# Altium integrated library Zilog Peripheral DMA Controller.IntLib: 15 symbols
Pins are listed as number, name and electrical type; pins without a type are passive.

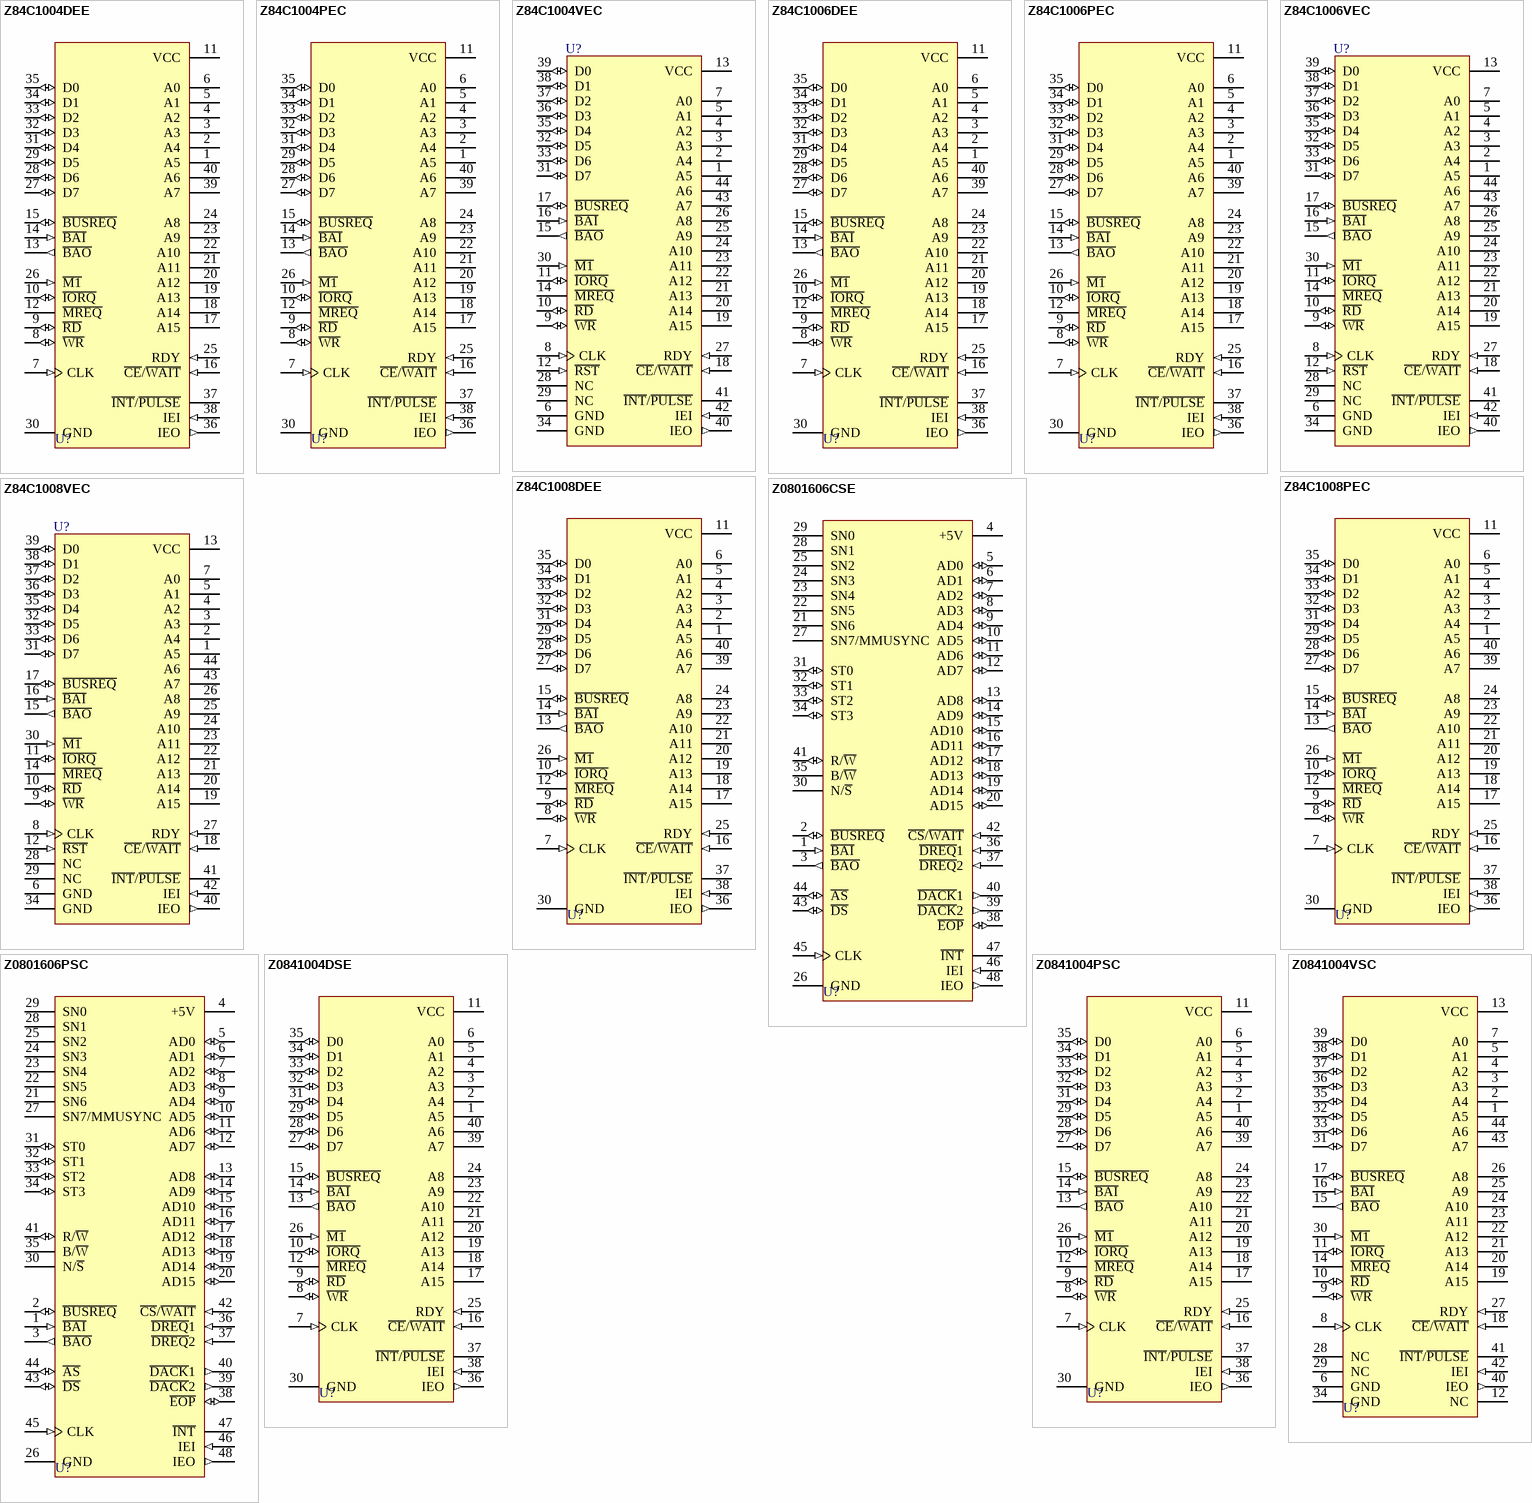
[diagram p0: symbols Z84C1004DEE to Z0841004VSC]

## Z84C1004DEE
designator U?
CMOS Direct Memory Access Controller; Published: 15-Apr-2002; LatestRevisionDate: 04-Mar-2005; LatestRevisionNote: Stylized 3D Model Added.; DatasheetVersion: 2001; PackageVersion: 1999; PackageReference: CerDIP40; Publisher: Altium Limited; PackageDescription: DIP; 40 Leads; Row Spacing 15.24 mm; Pitch 2.54 mm; ComponentLink1Description: Manufacturer Link; ComponentLink1URL: http://www.zilog.com/; ComponentLink2Description: Datasheet; ComponentLink2URL: http://www.zilog.com/docs/z80/um0081.pdf
footprint CerDIP40 (DIP; 40 Leads; Row Spacing 15.24 mm; Pitch 2.54 mm)
3D model PDIP40 (DIP; 40 Leads; Row Spacing 15.24 mm; Pitch 2.54 mm)
pins: 1 A5 (hiz), 2 A4 (hiz), 3 A3 (hiz), 4 A2 (hiz), 5 A1 (hiz), 6 A0 (hiz), 7 CLK (in), 8 ~{WR} (io), 9 ~{RD} (io), 10 ~{IORQ} (io), 11 VCC (power), 12 ~{MREQ} (hiz), 13 ~{BAO} (out), 14 ~{BAI} (in), 15 ~{BUSREQ} (io), 16 ~{CE}/~{WAIT} (in), 17 A15 (hiz), 18 A14 (hiz), 19 A13 (hiz), 20 A12 (hiz), 21 A11 (hiz), 22 A10 (hiz), 23 A9 (hiz), 24 A8 (hiz), 25 RDY (in), 26 ~{M1} (in), 27 D7 (io), 28 D6 (io), 29 D5 (io), 30 GND (power), 31 D4 (io), 32 D3 (io), 33 D2 (io), 34 D1 (io), 35 D0 (io), 36 IEO (out), 37 ~{INT}/~{PULSE} (oc), 38 IEI (in), 39 A7 (hiz), 40 A6 (hiz)

## Z84C1004PEC
designator U?
CMOS Direct Memory Access Controller; Published: 15-Apr-2002; LatestRevisionDate: 04-Mar-2005; LatestRevisionNote: Stylized 3D Model Added.; DatasheetVersion: 2001; PackageVersion: Jun-1999; PackageReference: PDIP40; Publisher: Altium Limited; PackageDescription: DIP; 40 Leads; Row Spacing 15.24 mm; Pitch 2.54 mm; ComponentLink1Description: Manufacturer Link; ComponentLink1URL: http://www.zilog.com/; ComponentLink2Description: Datasheet; ComponentLink2URL: http://www.zilog.com/docs/z80/um0081.pdf
footprint PDIP40 (DIP; 40 Leads; Row Spacing 15.24 mm; Pitch 2.54 mm)
3D model PDIP40 (DIP; 40 Leads; Row Spacing 15.24 mm; Pitch 2.54 mm)
pins: 1 A5 (hiz), 2 A4 (hiz), 3 A3 (hiz), 4 A2 (hiz), 5 A1 (hiz), 6 A0 (hiz), 7 CLK (in), 8 ~{WR} (io), 9 ~{RD} (io), 10 ~{IORQ} (io), 11 VCC (power), 12 ~{MREQ} (hiz), 13 ~{BAO} (out), 14 ~{BAI} (in), 15 ~{BUSREQ} (io), 16 ~{CE}/~{WAIT} (in), 17 A15 (hiz), 18 A14 (hiz), 19 A13 (hiz), 20 A12 (hiz), 21 A11 (hiz), 22 A10 (hiz), 23 A9 (hiz), 24 A8 (hiz), 25 RDY (in), 26 ~{M1} (in), 27 D7 (io), 28 D6 (io), 29 D5 (io), 30 GND (power), 31 D4 (io), 32 D3 (io), 33 D2 (io), 34 D1 (io), 35 D0 (io), 36 IEO (out), 37 ~{INT}/~{PULSE} (oc), 38 IEI (in), 39 A7 (hiz), 40 A6 (hiz)

## Z84C1004VEC
designator U?
CMOS Direct Memory Access Controller; Published: 15-Apr-2002; LatestRevisionDate: 13-Apr-2006; LatestRevisionNote: IPC-7351 Footprint Added.; DatasheetVersion: 2001; PackageReference: PCC44; Publisher: Altium Limited; PackageDescription: 44-Pin Leaded Chip Carrier 1.27 mm Pitch; Code_IPC: PLCC-44; ComponentLink1Description: Manufacturer Link; ComponentLink1URL: http://www.zilog.com/; ComponentLink2Description: Datasheet; ComponentLink2URL: http://www.zilog.com/docs/z80/um0081.pdf
footprint PCC44_N (Leaded Chip Carrier, 44-Leads, Body 16.6x16.6mm, Pitch 1.27mm, IPC Medium Density)
footprint PCC44_L (Leaded Chip Carrier, 44-Leads, Body 16.6x16.6mm, Pitch 1.27mm, IPC High Density)
footprint PCC44_M (Leaded Chip Carrier, 44-Leads, Body 16.6x16.6mm, Pitch 1.27mm, IPC Low Density)
3D model Z84C10-PCC44 (44-Pin Leaded Chip Carrier 1.27 mm Pitch)
pins: 1 A5 (hiz), 2 A4 (hiz), 3 A3 (hiz), 4 A2 (hiz), 5 A1 (hiz), 6 GND (power), 7 A0 (hiz), 8 CLK (in), 9 ~{WR} (io), 10 ~{RD} (io), 11 ~{IORQ} (io), 12 ~{RST} (in), 13 VCC (power), 14 ~{MREQ} (hiz), 15 ~{BAO} (out), 16 ~{BAI} (in), 17 ~{BUSREQ} (io), 18 ~{CE}/~{WAIT} (in), 19 A15 (hiz), 20 A14 (hiz), 21 A13 (hiz), 22 A12 (hiz), 23 A11 (hiz), 24 A10 (hiz), 25 A9 (hiz), 26 A8 (hiz), 27 RDY (in), 28 NC, 29 NC, 30 ~{M1} (in), 31 D7 (io), 32 D5 (io), 33 D6 (io), 34 GND (power), 35 D4 (io), 36 D3 (io), 37 D2 (io), 38 D1 (io), 39 D0 (io), 40 IEO (out), 41 ~{INT}/~{PULSE} (oc), 42 IEI (in), 43 A7 (hiz), 44 A6 (hiz)

## Z84C1006DEE
designator U?
CMOS Direct Memory Access Controller; Published: 15-Apr-2002; LatestRevisionDate: 04-Mar-2005; LatestRevisionNote: Stylized 3D Model Added.; DatasheetVersion: 2001; PackageVersion: 1999; PackageReference: CerDIP40; Publisher: Altium Limited; PackageDescription: DIP; 40 Leads; Row Spacing 15.24 mm; Pitch 2.54 mm; ComponentLink1Description: Manufacturer Link; ComponentLink1URL: http://www.zilog.com/; ComponentLink2Description: Datasheet; ComponentLink2URL: http://www.zilog.com/docs/z80/um0081.pdf
footprint CerDIP40 (DIP; 40 Leads; Row Spacing 15.24 mm; Pitch 2.54 mm)
3D model PDIP40 (DIP; 40 Leads; Row Spacing 15.24 mm; Pitch 2.54 mm)
pins: 1 A5 (hiz), 2 A4 (hiz), 3 A3 (hiz), 4 A2 (hiz), 5 A1 (hiz), 6 A0 (hiz), 7 CLK (in), 8 ~{WR} (io), 9 ~{RD} (io), 10 ~{IORQ} (io), 11 VCC (power), 12 ~{MREQ} (hiz), 13 ~{BAO} (out), 14 ~{BAI} (in), 15 ~{BUSREQ} (io), 16 ~{CE}/~{WAIT} (in), 17 A15 (hiz), 18 A14 (hiz), 19 A13 (hiz), 20 A12 (hiz), 21 A11 (hiz), 22 A10 (hiz), 23 A9 (hiz), 24 A8 (hiz), 25 RDY (in), 26 ~{M1} (in), 27 D7 (io), 28 D6 (io), 29 D5 (io), 30 GND (power), 31 D4 (io), 32 D3 (io), 33 D2 (io), 34 D1 (io), 35 D0 (io), 36 IEO (out), 37 ~{INT}/~{PULSE} (oc), 38 IEI (in), 39 A7 (hiz), 40 A6 (hiz)

## Z84C1006PEC
designator U?
CMOS Direct Memory Access Controller; Published: 15-Apr-2002; LatestRevisionDate: 04-Mar-2005; LatestRevisionNote: Stylized 3D Model Added.; DatasheetVersion: 2001; PackageVersion: Jun-1999; PackageReference: PDIP40; Publisher: Altium Limited; PackageDescription: DIP; 40 Leads; Row Spacing 15.24 mm; Pitch 2.54 mm; ComponentLink1Description: Manufacturer Link; ComponentLink1URL: http://www.zilog.com/; ComponentLink2Description: Datasheet; ComponentLink2URL: http://www.zilog.com/docs/z80/um0081.pdf
footprint PDIP40 (DIP; 40 Leads; Row Spacing 15.24 mm; Pitch 2.54 mm)
3D model PDIP40 (DIP; 40 Leads; Row Spacing 15.24 mm; Pitch 2.54 mm)
pins: 1 A5 (hiz), 2 A4 (hiz), 3 A3 (hiz), 4 A2 (hiz), 5 A1 (hiz), 6 A0 (hiz), 7 CLK (in), 8 ~{WR} (io), 9 ~{RD} (io), 10 ~{IORQ} (io), 11 VCC (power), 12 ~{MREQ} (hiz), 13 ~{BAO} (out), 14 ~{BAI} (in), 15 ~{BUSREQ} (io), 16 ~{CE}/~{WAIT} (in), 17 A15 (hiz), 18 A14 (hiz), 19 A13 (hiz), 20 A12 (hiz), 21 A11 (hiz), 22 A10 (hiz), 23 A9 (hiz), 24 A8 (hiz), 25 RDY (in), 26 ~{M1} (in), 27 D7 (io), 28 D6 (io), 29 D5 (io), 30 GND (power), 31 D4 (io), 32 D3 (io), 33 D2 (io), 34 D1 (io), 35 D0 (io), 36 IEO (out), 37 ~{INT}/~{PULSE} (oc), 38 IEI (in), 39 A7 (hiz), 40 A6 (hiz)

## Z84C1006VEC
designator U?
CMOS Direct Memory Access Controller; Published: 15-Apr-2002; LatestRevisionDate: 13-Apr-2006; LatestRevisionNote: IPC-7351 Footprint Added.; DatasheetVersion: 2001; PackageReference: PCC44; Publisher: Altium Limited; PackageDescription: 44-Pin Leaded Chip Carrier 1.27 mm Pitch; Code_IPC: PLCC-44; ComponentLink1Description: Manufacturer Link; ComponentLink1URL: http://www.zilog.com/; ComponentLink2Description: Datasheet; ComponentLink2URL: http://www.zilog.com/docs/z80/um0081.pdf
footprint PCC44_N (Leaded Chip Carrier, 44-Leads, Body 16.6x16.6mm, Pitch 1.27mm, IPC Medium Density)
footprint PCC44_L (Leaded Chip Carrier, 44-Leads, Body 16.6x16.6mm, Pitch 1.27mm, IPC High Density)
footprint PCC44_M (Leaded Chip Carrier, 44-Leads, Body 16.6x16.6mm, Pitch 1.27mm, IPC Low Density)
3D model Z84C10-PCC44 (44-Pin Leaded Chip Carrier 1.27 mm Pitch)
pins: 1 A5 (hiz), 2 A4 (hiz), 3 A3 (hiz), 4 A2 (hiz), 5 A1 (hiz), 6 GND (power), 7 A0 (hiz), 8 CLK (in), 9 ~{WR} (io), 10 ~{RD} (io), 11 ~{IORQ} (io), 12 ~{RST} (in), 13 VCC (power), 14 ~{MREQ} (hiz), 15 ~{BAO} (out), 16 ~{BAI} (in), 17 ~{BUSREQ} (io), 18 ~{CE}/~{WAIT} (in), 19 A15 (hiz), 20 A14 (hiz), 21 A13 (hiz), 22 A12 (hiz), 23 A11 (hiz), 24 A10 (hiz), 25 A9 (hiz), 26 A8 (hiz), 27 RDY (in), 28 NC, 29 NC, 30 ~{M1} (in), 31 D7 (io), 32 D5 (io), 33 D6 (io), 34 GND (power), 35 D4 (io), 36 D3 (io), 37 D2 (io), 38 D1 (io), 39 D0 (io), 40 IEO (out), 41 ~{INT}/~{PULSE} (oc), 42 IEI (in), 43 A7 (hiz), 44 A6 (hiz)

## Z84C1008DEE
designator U?
CMOS Direct Memory Access Controller; Published: 15-Apr-2002; LatestRevisionDate: 04-Mar-2005; LatestRevisionNote: Stylized 3D Model Added.; DatasheetVersion: 2001; PackageVersion: 1999; PackageReference: CerDIP40; Publisher: Altium Limited; PackageDescription: DIP; 40 Leads; Row Spacing 15.24 mm; Pitch 2.54 mm; ComponentLink1Description: Manufacturer Link; ComponentLink1URL: http://www.zilog.com/; ComponentLink2Description: Datasheet; ComponentLink2URL: http://www.zilog.com/docs/z80/um0081.pdf
footprint CerDIP40 (DIP; 40 Leads; Row Spacing 15.24 mm; Pitch 2.54 mm)
3D model PDIP40 (DIP; 40 Leads; Row Spacing 15.24 mm; Pitch 2.54 mm)
pins: 1 A5 (hiz), 2 A4 (hiz), 3 A3 (hiz), 4 A2 (hiz), 5 A1 (hiz), 6 A0 (hiz), 7 CLK (in), 8 ~{WR} (io), 9 ~{RD} (io), 10 ~{IORQ} (io), 11 VCC (power), 12 ~{MREQ} (hiz), 13 ~{BAO} (out), 14 ~{BAI} (in), 15 ~{BUSREQ} (io), 16 ~{CE}/~{WAIT} (in), 17 A15 (hiz), 18 A14 (hiz), 19 A13 (hiz), 20 A12 (hiz), 21 A11 (hiz), 22 A10 (hiz), 23 A9 (hiz), 24 A8 (hiz), 25 RDY (in), 26 ~{M1} (in), 27 D7 (io), 28 D6 (io), 29 D5 (io), 30 GND (power), 31 D4 (io), 32 D3 (io), 33 D2 (io), 34 D1 (io), 35 D0 (io), 36 IEO (out), 37 ~{INT}/~{PULSE} (oc), 38 IEI (in), 39 A7 (hiz), 40 A6 (hiz)

## Z84C1008PEC
designator U?
CMOS Direct Memory Access Controller; Published: 15-Apr-2002; LatestRevisionDate: 04-Mar-2005; LatestRevisionNote: Stylized 3D Model Added.; DatasheetVersion: 2001; PackageVersion: Jun-1999; PackageReference: PDIP40; Publisher: Altium Limited; PackageDescription: DIP; 40 Leads; Row Spacing 15.24 mm; Pitch 2.54 mm; ComponentLink1Description: Manufacturer Link; ComponentLink1URL: http://www.zilog.com/; ComponentLink2Description: Datasheet; ComponentLink2URL: http://www.zilog.com/docs/z80/um0081.pdf
footprint PDIP40 (DIP; 40 Leads; Row Spacing 15.24 mm; Pitch 2.54 mm)
3D model PDIP40 (DIP; 40 Leads; Row Spacing 15.24 mm; Pitch 2.54 mm)
pins: 1 A5 (hiz), 2 A4 (hiz), 3 A3 (hiz), 4 A2 (hiz), 5 A1 (hiz), 6 A0 (hiz), 7 CLK (in), 8 ~{WR} (io), 9 ~{RD} (io), 10 ~{IORQ} (io), 11 VCC (power), 12 ~{MREQ} (hiz), 13 ~{BAO} (out), 14 ~{BAI} (in), 15 ~{BUSREQ} (io), 16 ~{CE}/~{WAIT} (in), 17 A15 (hiz), 18 A14 (hiz), 19 A13 (hiz), 20 A12 (hiz), 21 A11 (hiz), 22 A10 (hiz), 23 A9 (hiz), 24 A8 (hiz), 25 RDY (in), 26 ~{M1} (in), 27 D7 (io), 28 D6 (io), 29 D5 (io), 30 GND (power), 31 D4 (io), 32 D3 (io), 33 D2 (io), 34 D1 (io), 35 D0 (io), 36 IEO (out), 37 ~{INT}/~{PULSE} (oc), 38 IEI (in), 39 A7 (hiz), 40 A6 (hiz)

## Z84C1008VEC
designator U?
CMOS Direct Memory Access Controller; Published: 15-Apr-2002; LatestRevisionDate: 13-Apr-2006; LatestRevisionNote: IPC-7351 Footprint Added.; DatasheetVersion: 2001; PackageReference: PCC44; Publisher: Altium Limited; PackageDescription: 44-Pin Leaded Chip Carrier 1.27 mm Pitch; Code_IPC: PLCC-44; ComponentLink1Description: Manufacturer Link; ComponentLink1URL: http://www.zilog.com/; ComponentLink2Description: Datasheet; ComponentLink2URL: http://www.zilog.com/docs/z80/um0081.pdf
footprint PCC44_N (Leaded Chip Carrier, 44-Leads, Body 16.6x16.6mm, Pitch 1.27mm, IPC Medium Density)
footprint PCC44_L (Leaded Chip Carrier, 44-Leads, Body 16.6x16.6mm, Pitch 1.27mm, IPC High Density)
footprint PCC44_M (Leaded Chip Carrier, 44-Leads, Body 16.6x16.6mm, Pitch 1.27mm, IPC Low Density)
3D model Z84C10-PCC44 (44-Pin Leaded Chip Carrier 1.27 mm Pitch)
pins: 1 A5 (hiz), 2 A4 (hiz), 3 A3 (hiz), 4 A2 (hiz), 5 A1 (hiz), 6 GND (power), 7 A0 (hiz), 8 CLK (in), 9 ~{WR} (io), 10 ~{RD} (io), 11 ~{IORQ} (io), 12 ~{RST} (in), 13 VCC (power), 14 ~{MREQ} (hiz), 15 ~{BAO} (out), 16 ~{BAI} (in), 17 ~{BUSREQ} (io), 18 ~{CE}/~{WAIT} (in), 19 A15 (hiz), 20 A14 (hiz), 21 A13 (hiz), 22 A12 (hiz), 23 A11 (hiz), 24 A10 (hiz), 25 A9 (hiz), 26 A8 (hiz), 27 RDY (in), 28 NC, 29 NC, 30 ~{M1} (in), 31 D7 (io), 32 D5 (io), 33 D6 (io), 34 GND (power), 35 D4 (io), 36 D3 (io), 37 D2 (io), 38 D1 (io), 39 D0 (io), 40 IEO (out), 41 ~{INT}/~{PULSE} (oc), 42 IEI (in), 43 A7 (hiz), 44 A6 (hiz)

## Z0801606CSE
designator U?
DMA Transfer Controller; Published: 15-Apr-2002; LatestRevisionDate: 04-Mar-2005; LatestRevisionNote: Stylized 3D Model Added.; DatasheetVersion: Oct-1988; PackageVersion: 2001; PackageReference: CDIP48; Publisher: Altium Limited; PackageDescription: DIP; 48 Leads; Row Spacing 15.24 mm; Pitch 2.54 mm; ComponentLink1Description: Manufacturer Link; ComponentLink1URL: http://www.zilog.com/
footprint CDIP48 (DIP; 48 Leads; Row Spacing 15.24 mm; Pitch 2.54 mm)
3D model CDIP48 (DIP; 48 Leads; Row Spacing 15.24 mm; Pitch 2.54 mm)
pins: 1 ~{BAI} (in), 2 ~{BUSREQ} (io), 3 ~{BAO} (out), 4 +5V (power), 5 AD0 (io), 6 AD1 (io), 7 AD2 (io), 8 AD3 (io), 9 AD4 (io), 10 AD5 (io), 11 AD6 (io), 12 AD7 (io), 13 AD8 (io), 14 AD9 (io), 15 AD10 (io), 16 AD11 (io), 17 AD12 (io), 18 AD13 (io), 19 AD14 (io), 20 AD15 (io), 21 SN6 (hiz), 22 SN5 (hiz), 23 SN4 (hiz), 24 SN3 (hiz), 25 SN2 (hiz), 26 GND (power), 27 SN7/MMUSYNC (hiz), 28 SN1 (hiz), 29 SN0 (hiz), 30 N/~{S} (hiz), 31 ST0 (io), 32 ST1 (io), 33 ST2 (io), 34 ST3 (io), 35 B/~{W} (hiz), 36 ~{DREQ}1 (in), 37 ~{DREQ}2 (in), 38 ~{EOP} (io), 39 ~{DACK}2 (out), 40 ~{DACK}1 (out), 41 R/~{W} (io), 42 ~{CS}/~{WAIT} (in), 43 ~{DS} (io), 44 ~{AS} (io), 45 CLK (in), 46 IEI (in), 47 ~{INT} (oc), 48 IEO (out)

## Z0801606PSC
designator U?
DMA Transfer Controller; Published: 15-Apr-2002; LatestRevisionDate: 04-Mar-2005; LatestRevisionNote: Stylized 3D Model Added.; DatasheetVersion: Oct-1988; PackageVersion: 2001; PackageReference: PDIP48; Publisher: Altium Limited; PackageDescription: DIP; 48 Leads; Row Spacing 15.24 mm; Pitch 2.54 mm; ComponentLink1Description: Manufacturer Link; ComponentLink1URL: http://www.zilog.com/
footprint PDIP48 (DIP; 48 Leads; Row Spacing 15.24 mm; Pitch 2.54 mm)
3D model PDIP48 (DIP; 48 Leads; Row Spacing 15.24 mm; Pitch 2.54 mm)
pins: 1 ~{BAI} (in), 2 ~{BUSREQ} (io), 3 ~{BAO} (out), 4 +5V (power), 5 AD0 (io), 6 AD1 (io), 7 AD2 (io), 8 AD3 (io), 9 AD4 (io), 10 AD5 (io), 11 AD6 (io), 12 AD7 (io), 13 AD8 (io), 14 AD9 (io), 15 AD10 (io), 16 AD11 (io), 17 AD12 (io), 18 AD13 (io), 19 AD14 (io), 20 AD15 (io), 21 SN6 (hiz), 22 SN5 (hiz), 23 SN4 (hiz), 24 SN3 (hiz), 25 SN2 (hiz), 26 GND (power), 27 SN7/MMUSYNC (hiz), 28 SN1 (hiz), 29 SN0 (hiz), 30 N/~{S} (hiz), 31 ST0 (io), 32 ST1 (io), 33 ST2 (io), 34 ST3 (io), 35 B/~{W} (hiz), 36 ~{DREQ}1 (in), 37 ~{DREQ}2 (in), 38 ~{EOP} (io), 39 ~{DACK}2 (out), 40 ~{DACK}1 (out), 41 R/~{W} (io), 42 ~{CS}/~{WAIT} (in), 43 ~{DS} (io), 44 ~{AS} (io), 45 CLK (in), 46 IEI (in), 47 ~{INT} (oc), 48 IEO (out)

## Z0841004DSE
designator U?
NMOS Direct Memory Access Controller; Published: 15-Apr-2002; LatestRevisionDate: 04-Mar-2005; LatestRevisionNote: Stylized 3D Model Added.; DatasheetVersion: 2001; PackageVersion: 1999; PackageReference: CerDIP40; Publisher: Altium Limited; PackageDescription: DIP; 40 Leads; Row Spacing 15.24 mm; Pitch 2.54 mm; ComponentLink1Description: Manufacturer Link; ComponentLink1URL: http://www.zilog.com/; ComponentLink2Description: Datasheet; ComponentLink2URL: http://www.zilog.com/docs/z80/um0081.pdf
footprint CerDIP40 (DIP; 40 Leads; Row Spacing 15.24 mm; Pitch 2.54 mm)
3D model PDIP40 (DIP; 40 Leads; Row Spacing 15.24 mm; Pitch 2.54 mm)
pins: 1 A5 (hiz), 2 A4 (hiz), 3 A3 (hiz), 4 A2 (hiz), 5 A1 (hiz), 6 A0 (hiz), 7 CLK (in), 8 ~{WR} (io), 9 ~{RD} (io), 10 ~{IORQ} (io), 11 VCC (power), 12 ~{MREQ} (hiz), 13 ~{BAO} (out), 14 ~{BAI} (in), 15 ~{BUSREQ} (io), 16 ~{CE}/~{WAIT} (in), 17 A15 (hiz), 18 A14 (hiz), 19 A13 (hiz), 20 A12 (hiz), 21 A11 (hiz), 22 A10 (hiz), 23 A9 (hiz), 24 A8 (hiz), 25 RDY (in), 26 ~{M1} (in), 27 D7 (io), 28 D6 (io), 29 D5 (io), 30 GND (power), 31 D4 (io), 32 D3 (io), 33 D2 (io), 34 D1 (io), 35 D0 (io), 36 IEO (out), 37 ~{INT}/~{PULSE} (oc), 38 IEI (in), 39 A7 (hiz), 40 A6 (hiz)

## Z0841004PSC
designator U?
NMOS Direct Memory Access Controller; Published: 15-Apr-2002; LatestRevisionDate: 04-Mar-2005; LatestRevisionNote: Stylized 3D Model Added.; DatasheetVersion: 2001; PackageVersion: Jun-1999; PackageReference: PDIP40; Publisher: Altium Limited; PackageDescription: DIP; 40 Leads; Row Spacing 15.24 mm; Pitch 2.54 mm; ComponentLink1Description: Manufacturer Link; ComponentLink1URL: http://www.zilog.com/; ComponentLink2Description: Datasheet; ComponentLink2URL: http://www.zilog.com/docs/z80/um0081.pdf
footprint PDIP40 (DIP; 40 Leads; Row Spacing 15.24 mm; Pitch 2.54 mm)
3D model PDIP40 (DIP; 40 Leads; Row Spacing 15.24 mm; Pitch 2.54 mm)
pins: 1 A5 (hiz), 2 A4 (hiz), 3 A3 (hiz), 4 A2 (hiz), 5 A1 (hiz), 6 A0 (hiz), 7 CLK (in), 8 ~{WR} (io), 9 ~{RD} (io), 10 ~{IORQ} (io), 11 VCC (power), 12 ~{MREQ} (hiz), 13 ~{BAO} (out), 14 ~{BAI} (in), 15 ~{BUSREQ} (io), 16 ~{CE}/~{WAIT} (in), 17 A15 (hiz), 18 A14 (hiz), 19 A13 (hiz), 20 A12 (hiz), 21 A11 (hiz), 22 A10 (hiz), 23 A9 (hiz), 24 A8 (hiz), 25 RDY (in), 26 ~{M1} (in), 27 D7 (io), 28 D6 (io), 29 D5 (io), 30 GND (power), 31 D4 (io), 32 D3 (io), 33 D2 (io), 34 D1 (io), 35 D0 (io), 36 IEO (out), 37 ~{INT}/~{PULSE} (oc), 38 IEI (in), 39 A7 (hiz), 40 A6 (hiz)

## Z0841004VSC
designator U?
NMOS Direct Memory Access Controller; Published: 15-Apr-2002; LatestRevisionDate: 13-Apr-2006; LatestRevisionNote: IPC-7351 Footprint Added.; DatasheetVersion: 2001; PackageReference: PCC44; Publisher: Altium Limited; PackageDescription: 44-Pin Leaded Chip Carrier 1.27 mm Pitch; Code_IPC: PLCC-44; ComponentLink1Description: Manufacturer Link; ComponentLink1URL: http://www.zilog.com/; ComponentLink2Description: Datasheet; ComponentLink2URL: http://www.zilog.com/docs/z80/um0081.pdf
footprint PCC44_N (Leaded Chip Carrier, 44-Leads, Body 16.6x16.6mm, Pitch 1.27mm, IPC Medium Density)
footprint PCC44_L (Leaded Chip Carrier, 44-Leads, Body 16.6x16.6mm, Pitch 1.27mm, IPC High Density)
footprint PCC44_M (Leaded Chip Carrier, 44-Leads, Body 16.6x16.6mm, Pitch 1.27mm, IPC Low Density)
3D model Z08410-PCC44 (44-Pin Leaded Chip Carrier 1.27 mm Pitch)
pins: 1 A5 (hiz), 2 A4 (hiz), 3 A3 (hiz), 4 A2 (hiz), 5 A1 (hiz), 6 GND (power), 7 A0 (hiz), 8 CLK (in), 9 ~{WR} (io), 10 ~{RD} (io), 11 ~{IORQ} (io), 12 NC, 13 VCC (power), 14 ~{MREQ} (hiz), 15 ~{BAO} (out), 16 ~{BAI} (in), 17 ~{BUSREQ} (io), 18 ~{CE}/~{WAIT} (in), 19 A15 (hiz), 20 A14 (hiz), 21 A13 (hiz), 22 A12 (hiz), 23 A11 (hiz), 24 A10 (hiz), 25 A9 (hiz), 26 A8 (hiz), 27 RDY (in), 28 NC, 29 NC, 30 ~{M1} (in), 31 D7 (io), 32 D5 (io), 33 D6 (io), 34 GND (power), 35 D4 (io), 36 D3 (io), 37 D2 (io), 38 D1 (io), 39 D0 (io), 40 IEO (out), 41 ~{INT}/~{PULSE} (oc), 42 IEI (in), 43 A7 (hiz), 44 A6 (hiz)

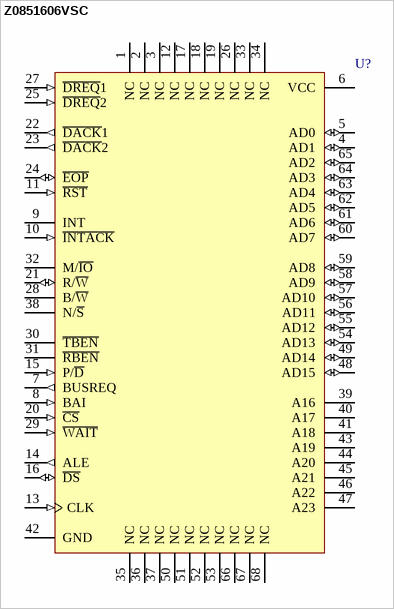
[diagram p1: symbol Z0851606VSC]

## Z0851606VSC
designator U?
DMA Transfer Controller; Note: NC pins must be connected to GND.; Published: 15-Apr-2002; LatestRevisionDate: 13-Apr-2006; LatestRevisionNote: IPC-7351 Footprint Added.; DatasheetVersion: Oct-1988; PackageReference: PCC68; Publisher: Altium Limited; PackageDescription: 68-Pin Leaded Chip Carrier 1.27 mm Pitch; Code_IPC: PLCC-68; ComponentLink1Description: Manufacturer Link; ComponentLink1URL: http://www.zilog.com/
footprint PCC68_N (Leaded Chip Carrier, 68-Leads, Body 24x24mm, Pitch 1.27mm, IPC Medium Density)
footprint PCC68_L (Leaded Chip Carrier, 68-Leads, Body 24x24mm, Pitch 1.27mm, IPC High Density)
footprint PCC68_M (Leaded Chip Carrier, 68-Leads, Body 24x24mm, Pitch 1.27mm, IPC Low Density)
3D model Z08516-PCC68 (68-Pin Leaded Chip Carrier 1.27 mm Pitch)
pins: 1 NC, 2 NC, 3 NC, 4 AD1 (io), 5 AD0 (io), 6 VCC (power), 7 BUSREQ (out), 8 BAI (in), 9 INT (oc), 10 ~{INTACK} (in), 11 ~{RST} (in), 12 NC, 13 CLK (in), 14 ALE (out), 15 P/~{D} (in), 16 ~{DS} (io), 17 NC, 18 NC, 19 NC, 20 ~{CS} (in), 21 R/~{W} (io), 22 ~{DACK}1 (out), 23 ~{DACK}2 (out), 24 ~{EOP} (io), 25 ~{DREQ}2 (in), 26 NC, 27 ~{DREQ}1 (in), 28 B/~{W} (hiz), 29 ~{WAIT} (in), 30 ~{TBEN} (oc), 31 ~{RBEN} (oc), 32 M/~{IO} (hiz), 33 NC, 34 NC, 35 NC, 36 NC, 37 NC, 38 N/~{S} (hiz), 39 A16 (hiz), 40 A17 (hiz), 41 A18 (hiz), 42 GND (power), 43 A19 (hiz), 44 A20 (hiz), 45 A21 (hiz), 46 A22 (hiz), 47 A23 (hiz), 48 AD15 (io), 49 AD14 (io), 50 NC, 51 NC, 52 NC, 53 NC, 54 AD13 (io), 55 AD12 (io), 56 AD11 (io), 57 AD10 (io), 58 AD9 (io), 59 AD8 (io), 60 AD7 (io), 61 AD6 (io), 62 AD5 (io), 63 AD4 (io), 64 AD3 (io), 65 AD2 (io), 66 NC, 67 NC, 68 NC